# Altium footprint library VFQFN-42 (9x3.5).PcbLib: 1 footprints
Each footprint in its own frame and in the unit in brackets; x right, y up, seen from the top. Pads: shape width x height; smd on the part's side, far side on the other; paste and mask are expansions set on the pad; w line width, h text height; cw(c..) or ccw(c..) is an arc to the next point about the centre after c.
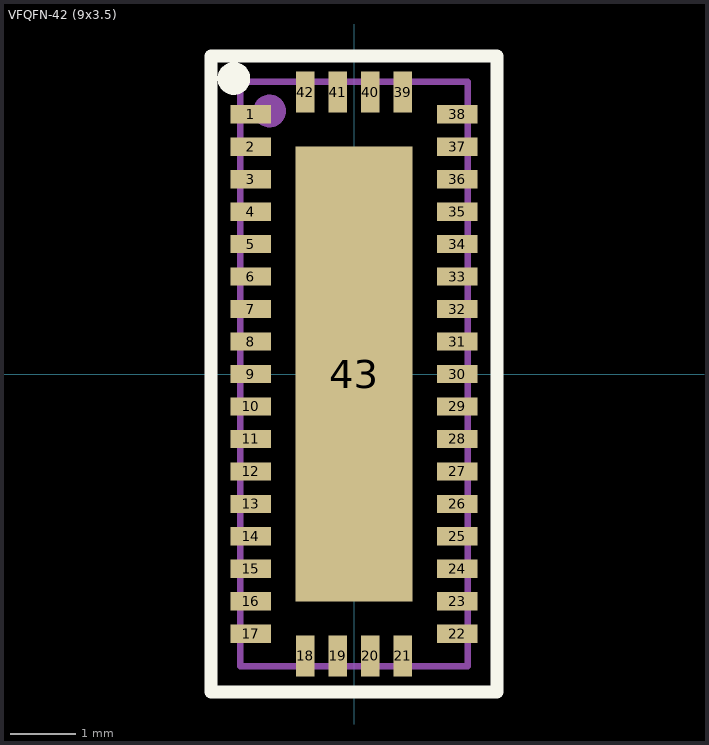
[diagram p0: the footprint, top view; thin cyan lines are the x and y axes]

## VFQFN-42 (9x3.5) [mm]
pads (43):
  rect 0.63x0.28 smd: 1(-1.59,4) 2(-1.59,3.5) 3(-1.59,3) 4(-1.59,2.5) 5(-1.59,2) 6(-1.59,1.5) 7(-1.59,1) 8(-1.59,0.5) 9(-1.59,0) 10(-1.59,-0.5) 11(-1.59,-1) 12(-1.59,-1.5) 13(-1.59,-2) 14(-1.59,-2.5) 15(-1.59,-3) 16(-1.59,-3.5) 17(-1.59,-4) 22(1.59,-4) 23(1.59,-3.5) 24(1.59,-3) 25(1.59,-2.5) 26(1.59,-2) 27(1.59,-1.5) 28(1.59,-1) 29(1.59,-0.5) 30(1.59,0) 31(1.59,0.5) 32(1.59,1) 33(1.59,1.5) 34(1.59,2) 35(1.59,2.5) 36(1.59,3) 37(1.59,3.5) 38(1.59,4)
  rect 0.28x0.63 smd: 18(-0.75,-4.34) 19(-0.25,-4.34) 20(0.25,-4.34) 21(0.75,-4.34) 39(0.75,4.34) 40(0.25,4.34) 41(-0.25,4.34) 42(-0.75,4.34)
  rect 1.8x7 smd: 43(0,0)
Top Overlay:
  circle w0.254: c-1.85,4.55 r0.125
  lines w0.2: -2.2,-4.9 -2.2,4.9 2.2,4.9 2.2,-4.9 -2.2,-4.9
Top Assembly:
  circle w0.254: c-1.3,4.05 r0.125
  lines w0.1: -1.75,-4.5 -1.75,4.5 1.75,4.5 1.75,-4.5 -1.75,-4.5
  text "'.Designator'" at -1,-0.3 h0.7
3D body "VFQFN-42 (9x3.5).stp": height 0.75, standoff 0, extent -1.75,-4.5 1.75,4.5